# EAGLE library part VIC20_EXPANSIONPORT-CONN (library commodore)
Expansionport of the Commodore VIC-20
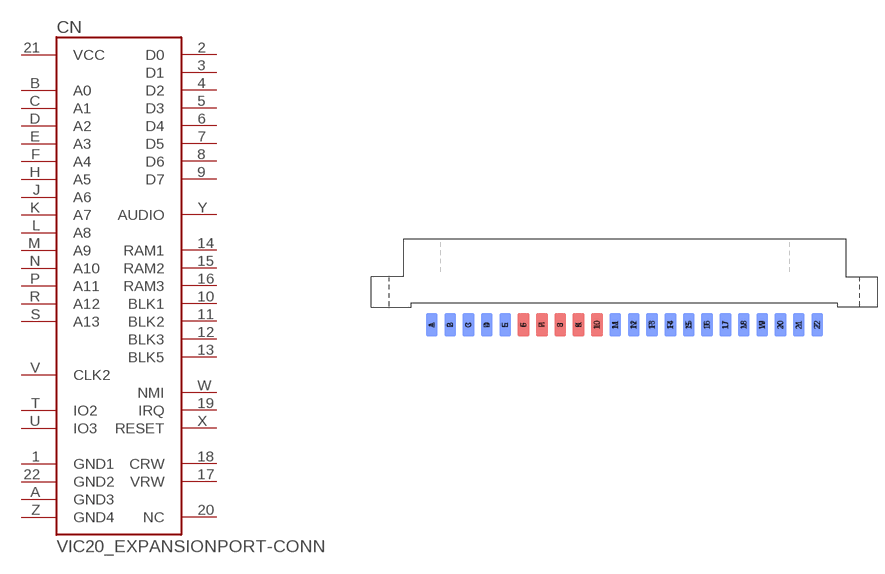
[diagram p29: symbol with the pads of UPS44CONN; footprint UPS44CONN]

Designator prefix CN

## VIC20_EXPANSIONPORT-CONN  [UPS44CONN]
1  GND1  pas
2  D0
3  D1
4  D2
5  D3
6  D4
7  D5
8  D6
9  D7
10  BLK1  in
11  BLK2  in
12  BLK3  in
13  BLK5  in
14  RAM1  in
15  RAM2  in
16  RAM3  in
17  VRW  in
18  CRW  in
19  IRQ
20  NC  pas
21  VCC  pas
22  GND2  pas
A  GND3  pas
B  A0  in
C  A1  in
D  A2  in
E  A3  in
F  A4  in
H  A5  in
J  A6  in
K  A7  in
L  A8  in
M  A9  in
N  A10  in
P  A11  in
R  A12  in
S  A13  in
T  IO2  in
U  IO3  in
V  CLK2  in
W  NMI
X  RESET
Y  AUDIO  pas
Z  GND4  pas

## Footprint UPS44CONN (pad centres in mm)
smd 2.54 x 5.08: 1 -41.579,-1.27; 2 -37.619,-1.27; 3 -33.659,-1.27; 4 -29.699,-1.27; 5 -25.739,-1.27; 6 -21.779,-1.27; 7 -17.819,-1.27; 8 -13.859,-1.27; 9 -9.899,-1.27; 10 -5.939,-1.27; 11 -1.979,-1.27; 12 1.981,-1.27; 13 5.941,-1.27; 14 9.901,-1.27; 15 13.861,-1.27; 16 17.821,-1.27; 17 21.781,-1.27; 18 25.741,-1.27; 19 29.701,-1.27; 20 33.661,-1.27; 21 37.621,-1.27; 22 41.581,-1.27
smd 2.54 x 5.08 bottom: A -41.579,-1.27; B -37.619,-1.27; C -33.659,-1.27; D -29.699,-1.27; E -25.739,-1.27; F -21.779,-1.27; H -17.819,-1.27; J -13.859,-1.27; K -9.899,-1.27; L -5.939,-1.27; M -1.979,-1.27; N 1.981,-1.27; P 5.941,-1.27; R 9.901,-1.27; S 13.861,-1.27; T 17.821,-1.27; U 21.781,-1.27; V 25.741,-1.27; W 29.701,-1.27; X 33.661,-1.27; Y 37.621,-1.27; Z 41.581,-1.27